# Altium footprint library CONNECTORS.PcbLib: 52 footprints (part 2 of 4)
Each footprint in its own frame and in the unit in brackets; x right, y up, seen from the top. Pads: shape width x height; smd on the part's side, far side on the other; paste and mask are expansions set on the pad; w line width, h text height; cw(c..) or ccw(c..) is an arc to the next point about the centre after c.
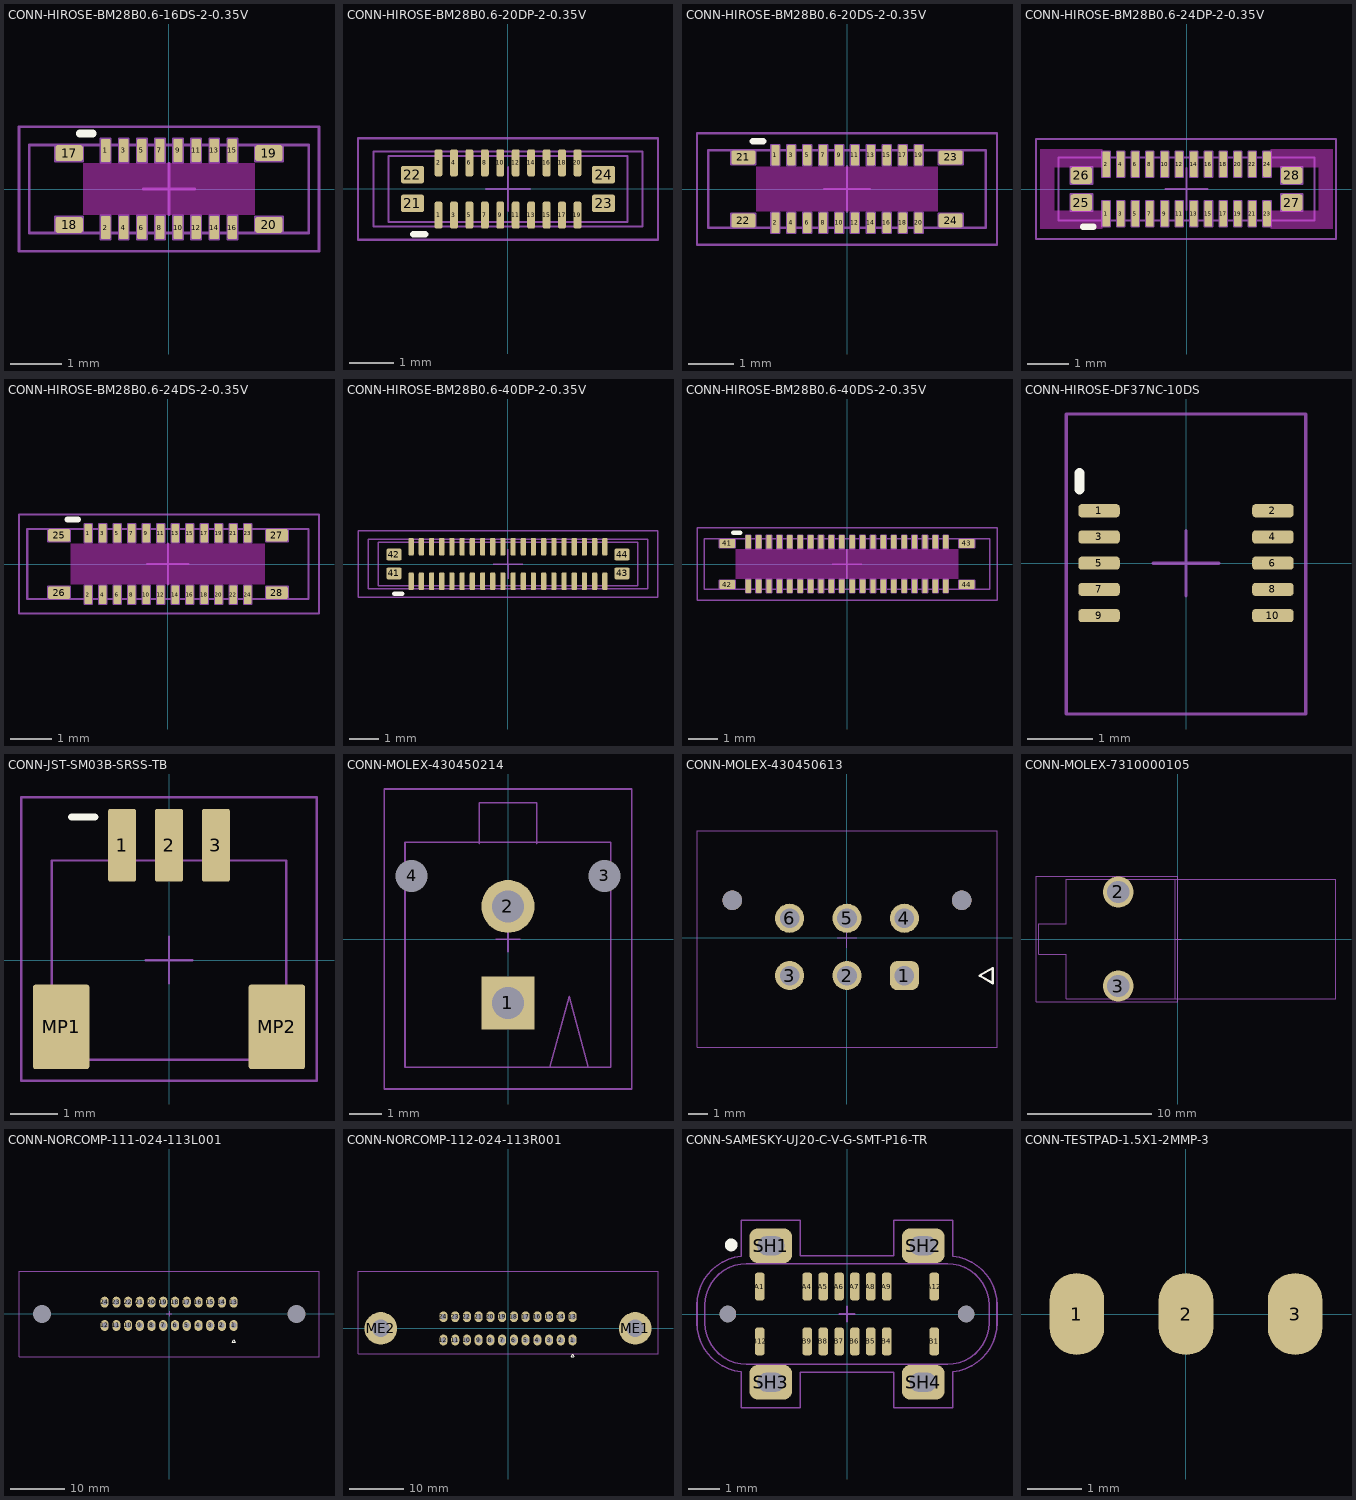
[diagram p1: the footprints below, top view; thin cyan lines are the x and y axes]

## CONN-HIROSE-BM28B0.6-16DS-2-0.35V [mm]
height 0.6
pads (20):
  rrect30% 0.18x0.45 smd mask+0.05: 1(-1.225,0.745) 2(-1.225,-0.745) 3(-0.875,0.745) 4(-0.875,-0.745) 5(-0.525,0.745) 6(-0.525,-0.745) 7(-0.175,0.745) 8(-0.175,-0.745) 9(0.175,0.745) 10(0.175,-0.745) 11(0.525,0.745) 12(0.525,-0.745) 13(0.875,0.745) 14(0.875,-0.745) 15(1.225,0.745) 16(1.225,-0.745)
  rrect30% 0.53x0.31 smd mask+0.05: 17(-1.93,0.694) 18(-1.93,-0.694) 19(1.93,0.694) 20(1.93,-0.694)
Top Overlay:
  lines w0.15: -1.725,1.075 -1.475,1.075
Keep-Out Layer:
  rectangle: -1.66,-0.5 1.66,0.5
Top Courtyard:
  lines w0.05: -0.5,0 0,0 ; 0,-0.5 0,0 ; 0,0.5 0,0 ; 0.5,0 0,0 ; -2.9,-1.2 -2.9,1.2 2.9,1.2 2.9,-1.2 -2.9,-1.2
Top Assembly:
  lines w0.05: -2.7,-0.85 -2.7,0.85 2.7,0.85 2.7,-0.85 -2.7,-0.85 ; -2.195,-0.849 -1.665,-0.849 -1.665,-0.539 -1.93,-0.539 -2.195,-0.539 -2.195,-0.849 ; -2.195,0.539 -2.195,0.849 -1.665,0.849 -1.665,0.539 -1.93,0.539 -2.195,0.539 ; -1.315,-0.97 -1.135,-0.97 -1.135,-0.52 -1.225,-0.52 -1.315,-0.52 -1.315,-0.97 ; -1.315,0.52 -1.315,0.97 -1.135,0.97 -1.135,0.52 -1.225,0.52 -1.315,0.52 ; -0.965,-0.97 -0.785,-0.97 -0.785,-0.52 -0.875,-0.52 -0.965,-0.52 -0.965,-0.97 ; -0.965,0.52 -0.965,0.97 -0.785,0.97 -0.785,0.52 -0.875,0.52 -0.965,0.52 ; -0.615,-0.97 -0.435,-0.97 -0.435,-0.52 -0.525,-0.52 -0.615,-0.52 -0.615,-0.97 ; -0.615,0.52 -0.615,0.97 -0.435,0.97 -0.435,0.52 -0.525,0.52 -0.615,0.52 ; -0.265,-0.97 -0.085,-0.97 -0.085,-0.52 -0.175,-0.52 -0.265,-0.52 -0.265,-0.97 ; -0.265,0.52 -0.265,0.97 -0.085,0.97 -0.085,0.52 -0.175,0.52 -0.265,0.52 ; 0.085,-0.97 0.265,-0.97 0.265,-0.52 0.175,-0.52 0.085,-0.52 0.085,-0.97 ; 0.085,0.52 0.085,0.97 0.265,0.97 0.265,0.52 0.175,0.52 0.085,0.52 ; 0.435,-0.97 0.615,-0.97 0.615,-0.52 0.525,-0.52 0.435,-0.52 0.435,-0.97 ; 0.435,0.52 0.435,0.97 0.615,0.97 0.615,0.52 0.525,0.52 0.435,0.52 ; 0.785,-0.97 0.965,-0.97 0.965,-0.52 0.875,-0.52 0.785,-0.52 0.785,-0.97 ; 0.785,0.52 0.785,0.97 0.965,0.97 0.965,0.52 0.875,0.52 0.785,0.52 ; 1.135,-0.97 1.315,-0.97 1.315,-0.52 1.225,-0.52 1.135,-0.52 1.135,-0.97 ; 1.135,0.52 1.135,0.97 1.315,0.97 1.315,0.52 1.225,0.52 1.135,0.52 ; 1.665,-0.849 2.195,-0.849 2.195,-0.539 1.93,-0.539 1.665,-0.539 1.665,-0.849 ; 1.665,0.539 1.665,0.849 2.195,0.849 2.195,0.539 1.93,0.539 1.665,0.539
  text "1" at -1.326,0.528 h0.7
3D body "BM28-16DS.stp": height 0.65, standoff 0.05, extent -2.7,-0.85 2.7,0.85

## CONN-HIROSE-BM28B0.6-20DP-2-0.35V [mm]
height 0.6
pads (24):
  rrect55% 0.18x0.615 smd mask+0.05: 1(-1.575,-0.593) 2(-1.575,0.592) 3(-1.225,-0.593) 4(-1.225,0.592) 5(-0.875,-0.593) 6(-0.875,0.592) 7(-0.525,-0.593) 8(-0.525,0.592) 9(-0.175,-0.593) 10(-0.175,0.592) 11(0.175,-0.593) 12(0.175,0.592) 13(0.525,-0.593) 14(0.525,0.592) 15(0.875,-0.593) 16(0.875,0.592) 17(1.225,-0.593) 18(1.225,0.592) 19(1.575,-0.593) 20(1.575,0.592)
  rrect25% 0.52x0.4 smd paste+0 mask+0.05: 21(-2.165,-0.325) 22(-2.165,0.325) 23(2.165,-0.325) 24(2.165,0.325)
Top Overlay:
  lines w0.15: -2.15,-1.025 -1.875,-1.025
Top Courtyard:
  lines w0.05: -0.5,0 0,0 ; 0,-0.5 0,0 ; 0,0.5 0,0 ; 0.5,0 0,0 ; -3.4,-1.15 3.4,-1.15 3.4,1.15 -3.4,1.15 -3.4,-1.15
Top Assembly:
  lines w0.05: -3.05,-0.85 -3.05,0.85 3.05,0.85 3.05,-0.85 -3.05,-0.85 ; -2.71,-0.75 -2.71,0.75 2.71,0.75 2.71,-0.75 -2.71,-0.75
  text "MATE ZONE" at 2.927,-0.44 h0.2
3D body "BM28-20DP.stp": height 0.52, standoff 0.05, extent -2.71,-0.75 2.71,0.75

## CONN-HIROSE-BM28B0.6-20DS-2-0.35V [mm]
height 0.6
pads (24):
  rrect30% 0.18x0.45 smd mask+0.05: 1(-1.575,0.745) 2(-1.575,-0.745) 3(-1.225,0.745) 4(-1.225,-0.745) 5(-0.875,0.745) 6(-0.875,-0.745) 7(-0.525,0.745) 8(-0.525,-0.745) 9(-0.175,0.745) 10(-0.175,-0.745) 11(0.175,0.745) 12(0.175,-0.745) 13(0.525,0.745) 14(0.525,-0.745) 15(0.875,0.745) 16(0.875,-0.745) 17(1.225,0.745) 18(1.225,-0.745) 19(1.575,0.745) 20(1.575,-0.745)
  rrect30% 0.53x0.31 smd mask+0.05: 21(-2.28,0.694) 22(-2.28,-0.694) 23(2.28,0.694) 24(2.28,-0.694)
Top Layer keep-out:
  rectangle: -2,-0.5 2,0.5
Top Overlay:
  lines w0.15: -2.075,1.05 -1.85,1.05
Top Courtyard:
  lines w0.05: -0.5,0 0,0 ; 0,-0.5 0,0 ; 0,0.5 0,0 ; 0.5,0 0,0 ; -3.3,-1.225 0.075,-1.225 3.3,-1.225 3.3,1.225 -3.3,1.225 -3.3,-1.225
Top Assembly:
  lines w0.05: -3.05,-0.85 3.05,-0.85 3.05,0.85 -3.05,0.85 -3.05,-0.85 ; -2.545,-0.849 -2.545,-0.539 -2.28,-0.539 -2.015,-0.539 -2.015,-0.849 -2.545,-0.849 ; -2.545,0.539 -2.545,0.849 -2.28,0.849 -2.015,0.849 -2.015,0.539 -2.545,0.539 ; -1.665,-0.97 -1.665,-0.52 -1.575,-0.52 -1.485,-0.52 -1.485,-0.97 -1.665,-0.97 ; -1.665,0.52 -1.665,0.97 -1.575,0.97 -1.485,0.97 -1.485,0.52 -1.665,0.52 ; -1.315,-0.97 -1.315,-0.52 -1.225,-0.52 -1.135,-0.52 -1.135,-0.97 -1.315,-0.97 ; -1.315,0.52 -1.315,0.97 -1.225,0.97 -1.135,0.97 -1.135,0.52 -1.315,0.52 ; -0.965,-0.97 -0.965,-0.52 -0.875,-0.52 -0.785,-0.52 -0.785,-0.97 -0.965,-0.97 ; -0.965,0.52 -0.965,0.97 -0.875,0.97 -0.785,0.97 -0.785,0.52 -0.965,0.52 ; -0.615,-0.97 -0.615,-0.52 -0.525,-0.52 -0.435,-0.52 -0.435,-0.97 -0.615,-0.97 ; -0.615,0.52 -0.615,0.97 -0.525,0.97 -0.435,0.97 -0.435,0.52 -0.615,0.52 ; -0.265,-0.97 -0.265,-0.52 -0.175,-0.52 -0.085,-0.52 -0.085,-0.97 -0.265,-0.97 ; -0.265,0.52 -0.265,0.97 -0.175,0.97 -0.085,0.97 -0.085,0.52 -0.265,0.52 ; 0.085,-0.97 0.265,-0.97 0.265,-0.52 0.175,-0.52 0.085,-0.52 0.085,-0.97 ; 0.085,0.52 0.265,0.52 0.265,0.97 0.175,0.97 0.085,0.97 0.085,0.52 ; 0.435,-0.97 0.615,-0.97 0.615,-0.52 0.525,-0.52 0.435,-0.52 0.435,-0.97 ; 0.435,0.52 0.615,0.52 0.615,0.97 0.525,0.97 0.435,0.97 0.435,0.52 ; 0.785,-0.97 0.965,-0.97 0.965,-0.52 0.875,-0.52 0.785,-0.52 0.785,-0.97 ; 0.785,0.52 0.965,0.52 0.965,0.97 0.875,0.97 0.785,0.97 0.785,0.52 ; 1.135,-0.97 1.315,-0.97 1.315,-0.52 1.225,-0.52 1.135,-0.52 1.135,-0.97 ; 1.135,0.52 1.315,0.52 1.315,0.97 1.225,0.97 1.135,0.97 1.135,0.52 ; 1.485,-0.97 1.665,-0.97 1.665,-0.52 1.575,-0.52 1.485,-0.52 1.485,-0.97 ; 1.485,0.52 1.665,0.52 1.665,0.97 1.575,0.97 1.485,0.97 1.485,0.52 ; 2.015,0.539 2.545,0.539 2.545,0.849 2.28,0.849 2.015,0.849 2.015,0.539 ; 2.015,-0.849 2.545,-0.849 2.545,-0.539 2.28,-0.539 2.015,-0.539 2.015,-0.849
  text "1" at -1.665,0.52 h0.4
3D body "BM28-20DS.stp": height 0.65, standoff 0.05, extent -3.05,-0.85 3.05,0.85

## CONN-HIROSE-BM28B0.6-24DP-2-0.35V [mm]
height 0.6
pads (28):
  rrect30% 0.18x0.615 smd mask+0.05: 1(-1.925,-0.593) 2(-1.925,0.593) 3(-1.575,-0.593) 4(-1.575,0.593) 5(-1.225,-0.593) 6(-1.225,0.593) 7(-0.875,-0.593) 8(-0.875,0.593) 9(-0.525,-0.593) 10(-0.525,0.593) 11(-0.175,-0.593) 12(-0.175,0.593) 13(0.175,-0.593) 14(0.175,0.593) 15(0.525,-0.593) 16(0.525,0.593) 17(0.875,-0.593) 18(0.875,0.593) 19(1.225,-0.593) 20(1.225,0.593) 21(1.575,-0.593) 22(1.575,0.593) 23(1.925,-0.593) 24(1.925,0.593)
  rrect30% 0.52x0.4 smd: 25(-2.515,-0.325) 26(-2.515,0.325) 27(2.515,-0.325) 28(2.515,0.325)
Top Overlay:
  lines w0.15: -2.475,-0.9 -2.225,-0.9
Keep-Out Layer:
  region: -2.015,0.525 -3.16,0.525 -3.16,-0.525 -2.015,-0.525 -2.015,-0.95 -3.5,-0.95 -3.5,0.95 -2.015,0.95
  region: 3.5,-0.95 2.015,-0.95 2.015,-0.525 3.16,-0.525 3.16,0.525 2.015,0.525 2.015,0.95 3.5,0.95
Top Courtyard:
  lines w0.05: -0.5,0 0.5,0 ; 0,-0.5 0,0.5 ; -3.6,-1.2 -3.6,1.2 3.575,1.2 3.575,-1.2 -3.6,-1.2
Top Assembly:
  lines w0.05: 0.48,0.285 0.615,0.285 0.615,0.9 0.435,0.9 0.435,0.285 0.525,0.285 ; -3.06,-0.75 3.06,-0.75 3.06,0.75 -3.06,0.75 -3.06,-0.75 ; -2.775,-0.525 -2.255,-0.525 -2.255,-0.125 -2.515,-0.125 -2.775,-0.125 -2.775,-0.325 -2.775,-0.525 ; -2.775,0.125 -2.255,0.125 -2.255,0.325 -2.255,0.525 -2.515,0.525 -2.775,0.525 -2.775,0.125 ; -2.015,-0.9 -1.835,-0.9 -1.835,-0.285 -1.925,-0.285 -2.015,-0.285 -2.015,-0.9 ; -2.015,0.285 -2.015,0.9 -1.835,0.9 -1.835,0.285 -1.925,0.285 -2.015,0.285 ; -1.665,-0.9 -1.485,-0.9 -1.485,-0.285 -1.575,-0.285 -1.665,-0.285 -1.665,-0.9 ; -1.665,0.285 -1.665,0.9 -1.485,0.9 -1.485,0.285 -1.575,0.285 -1.665,0.285 ; -1.315,-0.9 -1.135,-0.9 -1.135,-0.285 -1.225,-0.285 -1.315,-0.285 -1.315,-0.9 ; -1.315,0.285 -1.315,0.9 -1.135,0.9 -1.135,0.285 -1.225,0.285 -1.315,0.285 ; -0.965,-0.9 -0.785,-0.9 -0.785,-0.285 -0.875,-0.285 -0.965,-0.285 -0.965,-0.9 ; -0.965,0.285 -0.965,0.9 -0.785,0.9 -0.785,0.285 -0.875,0.285 -0.965,0.285 ; -0.615,-0.9 -0.615,-0.285 -0.525,-0.285 -0.435,-0.285 -0.435,-0.9 -0.615,-0.9 ; -0.615,0.285 -0.525,0.285 -0.435,0.285 -0.435,0.9 -0.615,0.9 -0.615,0.285 ; -0.265,-0.9 -0.265,-0.285 -0.175,-0.285 -0.085,-0.285 -0.085,-0.9 -0.265,-0.9 ; -0.265,0.285 -0.175,0.285 -0.085,0.285 -0.085,0.9 -0.265,0.9 -0.265,0.285 ; 0.085,-0.9 0.085,-0.285 0.175,-0.285 0.265,-0.285 0.265,-0.9 0.085,-0.9 ; 0.085,0.285 0.175,0.285 0.265,0.285 0.265,0.9 0.085,0.9 0.085,0.285 ; 0.435,-0.9 0.435,-0.285 0.525,-0.285 0.615,-0.285 0.615,-0.9 0.435,-0.9 ; 0.785,-0.9 0.785,-0.285 0.875,-0.285 0.965,-0.285 0.965,-0.9 0.785,-0.9 ; 0.785,0.285 0.875,0.285 0.965,0.285 0.965,0.9 0.785,0.9 0.785,0.285 ; 1.135,-0.9 1.135,-0.285 1.225,-0.285 1.315,-0.285 1.315,-0.9 1.135,-0.9 ; 1.135,0.285 1.225,0.285 1.315,0.285 1.315,0.9 1.135,0.9 1.135,0.285 ; 1.485,-0.9 1.485,-0.285 1.575,-0.285 1.665,-0.285 1.665,-0.9 1.485,-0.9 ; 1.485,0.285 1.575,0.285 1.665,0.285 1.665,0.9 1.485,0.9 1.485,0.285 ; 1.835,-0.9 1.835,-0.285 1.925,-0.285 2.015,-0.285 2.015,-0.9 1.835,-0.9 ; 1.835,0.285 1.925,0.285 2.015,0.285 2.015,0.9 1.835,0.9 1.835,0.285 ; 2.255,-0.525 2.515,-0.525 2.775,-0.525 2.775,-0.125 2.255,-0.125 2.255,-0.325 2.255,-0.525 ; 2.255,0.125 2.515,0.125 2.775,0.125 2.775,0.325 2.775,0.525 2.255,0.525 2.255,0.125
  text "1" at -1.835,-0.9 h0.2
3D body "BM28-24DP.stp": height 0.47, standoff 0, extent -3.06,-0.75 3.06,0.75

## CONN-HIROSE-BM28B0.6-24DS-2-0.35V [mm]
height 0.6
pads (28):
  rrect30% 0.18x0.45 smd mask+0.05: 1(-1.925,0.745) 2(-1.925,-0.745) 3(-1.575,0.745) 4(-1.575,-0.745) 5(-1.225,0.745) 6(-1.225,-0.745) 7(-0.875,0.745) 8(-0.875,-0.745) 9(-0.525,0.745) 10(-0.525,-0.745) 11(-0.175,0.745) 12(-0.175,-0.745) 13(0.175,0.745) 14(0.175,-0.745) 15(0.525,0.745) 16(0.525,-0.745) 17(0.875,0.745) 18(0.875,-0.745) 19(1.225,0.745) 20(1.225,-0.745) 21(1.575,0.745) 22(1.575,-0.745) 23(1.925,0.745) 24(1.925,-0.745)
  rrect30% 0.53x0.31 smd mask+0.05: 25(-2.63,0.694) 26(-2.63,-0.694) 27(2.63,0.694) 28(2.63,-0.694)
Top Overlay:
  lines w0.15: -2.425,1.075 -2.175,1.075
Keep-Out Layer:
  rectangle: -2.36,-0.5 2.35,0.5
Top Courtyard:
  lines w0.05: -0.5,0 0,0 ; 0,-0.5 0,0 ; 0,0.5 0,0 ; 0.5,0 0,0 ; -3.6,-1.2 3.65,-1.2 3.65,1.2 -3.6,1.2 -3.6,-1.2
Top Assembly:
  lines w0.05: -3.4,-0.85 -3.4,0.85 3.4,0.85 3.4,-0.85 -3.4,-0.85 ; -2.895,-0.849 -2.365,-0.849 -2.365,-0.539 -2.63,-0.539 -2.895,-0.539 -2.895,-0.849 ; -2.895,0.539 -2.895,0.849 -2.365,0.849 -2.365,0.539 -2.63,0.539 -2.895,0.539 ; -2.015,-0.97 -1.835,-0.97 -1.835,-0.52 -1.925,-0.52 -2.015,-0.52 -2.015,-0.97 ; -2.015,0.52 -2.015,0.97 -1.835,0.97 -1.835,0.52 -1.925,0.52 -2.015,0.52 ; -1.665,-0.97 -1.485,-0.97 -1.485,-0.52 -1.575,-0.52 -1.665,-0.52 -1.665,-0.97 ; -1.665,0.52 -1.665,0.97 -1.485,0.97 -1.485,0.52 -1.575,0.52 -1.665,0.52 ; -1.315,-0.97 -1.135,-0.97 -1.135,-0.52 -1.225,-0.52 -1.315,-0.52 -1.315,-0.97 ; -1.315,0.52 -1.315,0.97 -1.135,0.97 -1.135,0.52 -1.225,0.52 -1.315,0.52 ; -0.965,-0.97 -0.785,-0.97 -0.785,-0.52 -0.875,-0.52 -0.965,-0.52 -0.965,-0.97 ; -0.965,0.52 -0.965,0.97 -0.785,0.97 -0.785,0.52 -0.875,0.52 -0.965,0.52 ; -0.615,-0.97 -0.435,-0.97 -0.435,-0.52 -0.525,-0.52 -0.615,-0.52 -0.615,-0.97 ; -0.615,0.52 -0.615,0.97 -0.435,0.97 -0.435,0.52 -0.525,0.52 -0.615,0.52 ; -0.265,-0.97 -0.085,-0.97 -0.085,-0.52 -0.175,-0.52 -0.265,-0.52 -0.265,-0.97 ; -0.265,0.52 -0.265,0.97 -0.085,0.97 -0.085,0.52 -0.175,0.52 -0.265,0.52 ; 0.085,-0.97 0.265,-0.97 0.265,-0.52 0.175,-0.52 0.085,-0.52 0.085,-0.97 ; 0.085,0.52 0.085,0.97 0.265,0.97 0.265,0.52 0.175,0.52 0.085,0.52 ; 0.435,-0.97 0.615,-0.97 0.615,-0.52 0.525,-0.52 0.435,-0.52 0.435,-0.97 ; 0.435,0.52 0.435,0.97 0.615,0.97 0.615,0.52 0.525,0.52 0.435,0.52 ; 0.785,-0.97 0.965,-0.97 0.965,-0.52 0.875,-0.52 0.785,-0.52 0.785,-0.97 ; 0.785,0.52 0.785,0.97 0.965,0.97 0.965,0.52 0.875,0.52 0.785,0.52 ; 1.135,-0.97 1.315,-0.97 1.315,-0.52 1.225,-0.52 1.135,-0.52 1.135,-0.97 ; 1.135,0.52 1.135,0.97 1.315,0.97 1.315,0.52 1.225,0.52 1.135,0.52 ; 1.485,-0.97 1.665,-0.97 1.665,-0.52 1.575,-0.52 1.485,-0.52 1.485,-0.97 ; 1.485,0.52 1.485,0.97 1.665,0.97 1.665,0.52 1.575,0.52 1.485,0.52 ; 1.835,-0.97 2.015,-0.97 2.015,-0.52 1.925,-0.52 1.835,-0.52 1.835,-0.97 ; 1.835,0.52 1.835,0.97 2.015,0.97 2.015,0.52 1.925,0.52 1.835,0.52 ; 2.365,-0.849 2.895,-0.849 2.895,-0.539 2.63,-0.539 2.365,-0.539 2.365,-0.849 ; 2.365,0.539 2.365,0.849 2.895,0.849 2.895,0.539 2.63,0.539 2.365,0.539
  text "1" at -2.026,0.528 h0.7
3D body "BM28-24DS.stp": height 0.6, standoff 0, extent -3.4,-0.85 3.4,0.85

## CONN-HIROSE-BM28B0.6-40DP-2-0.35V [mm]
height 0.6
pads (44):
  rrect55% 0.18x0.615 smd mask+0.05: 1(-3.325,-0.593) 2(-3.325,0.593) 3(-2.975,-0.593) 4(-2.975,0.593) 5(-2.625,-0.593) 6(-2.625,0.593) 7(-2.275,-0.593) 8(-2.275,0.593) 9(-1.925,-0.593) 10(-1.925,0.593) 11(-1.575,-0.593) 12(-1.575,0.593) 13(-1.225,-0.593) 14(-1.225,0.593) 15(-0.875,-0.593) 16(-0.875,0.593) 17(-0.525,-0.593) 18(-0.525,0.593) 19(-0.175,-0.593) 20(-0.175,0.593) 21(0.175,-0.593) 22(0.175,0.593) 23(0.525,-0.593) 24(0.525,0.593) 25(0.875,-0.593) 26(0.875,0.593) 27(1.225,-0.593) 28(1.225,0.593) 29(1.575,-0.593) 30(1.575,0.593) 31(1.925,-0.593) 32(1.925,0.593) 33(2.275,-0.593) 34(2.275,0.593) 35(2.625,-0.593) 36(2.625,0.593) 37(2.975,-0.593) 38(2.975,0.593) 39(3.325,-0.593) 40(3.325,0.593)
  rrect25% 0.52x0.4 smd paste+0 mask+0.05: 41(-3.915,-0.325) 42(-3.915,0.325) 43(3.915,-0.325) 44(3.915,0.325)
Top Overlay:
  lines w0.15: -3.9,-1.025 -3.625,-1.025
Top Courtyard:
  lines w0.05: -0.5,0 0,0 ; 0,-0.5 0,0 ; 0,0.5 0,0 ; 0.5,0 0,0 ; -5.15,-1.15 -5.15,1.15 5.15,1.15 5.15,-1.15 -5.15,-1.15
Top Assembly:
  lines w0.05: -4.8,-0.85 4.8,-0.85 4.8,0.85 -4.8,0.85 -4.8,-0.85 ; -4.46,-0.75 4.46,-0.75 4.46,0.75 -4.46,0.75 -4.46,-0.75
  text "MATE ZONE" at 4.677,-0.44 h0.2
3D body "BM28-40DP.stp": height 0.47, standoff 0, extent -4.46,-0.75 4.46,0.75

## CONN-HIROSE-BM28B0.6-40DS-2-0.35V [mm]
height 0.6
pads (44):
  rrect30% 0.18x0.45 smd mask+0.05: 1(-3.325,0.745) 2(-3.325,-0.745) 3(-2.975,0.745) 4(-2.975,-0.745) 5(-2.625,0.745) 6(-2.625,-0.745) 7(-2.275,0.745) 8(-2.275,-0.745) 9(-1.925,0.745) 10(-1.925,-0.745) 11(-1.575,0.745) 12(-1.575,-0.745) 13(-1.225,0.745) 14(-1.225,-0.745) 15(-0.875,0.745) 16(-0.875,-0.745) 17(-0.525,0.745) 18(-0.525,-0.745) 19(-0.175,0.745) 20(-0.175,-0.745) 21(0.175,0.745) 22(0.175,-0.745) 23(0.525,0.745) 24(0.525,-0.745) 25(0.875,0.745) 26(0.875,-0.745) 27(1.225,0.745) 28(1.225,-0.745) 29(1.575,0.745) 30(1.575,-0.745) 31(1.925,0.745) 32(1.925,-0.745) 33(2.275,0.745) 34(2.275,-0.745) 35(2.625,0.745) 36(2.625,-0.745) 37(2.975,0.745) 38(2.975,-0.745) 39(3.325,0.745) 40(3.325,-0.745)
  rrect30% 0.53x0.31 smd mask+0.05: 41(-4.03,0.694) 42(-4.03,-0.694) 43(4.03,0.694) 44(4.03,-0.694)
Top Layer keep-out:
  rectangle: -3.75,-0.5 3.75,0.5
Top Overlay:
  lines w0.15: -3.825,1.05 -3.6,1.05
Top Courtyard:
  lines w0.05: -0.5,0 0,0 ; 0,-0.5 0,0 ; 0,0.5 0,0 ; 0.5,0 0,0 ; -5.05,-1.225 -5.05,1.225 5.05,1.225 5.05,-1.225 -1.675,-1.225 -5.05,-1.225
Top Assembly:
  drawing of 224 lines, arcs and shapes, not listed
  text "1" at -3.415,0.52 h0.4
3D body "BM28-40DS.stp": height 0.6, standoff 0, extent -4.8,-0.85 4.8,0.85

## CONN-HIROSE-DF37NC-10DS [mm]
pads (10):
  rrect50% 0.63x0.2 smd paste-2539.97 mask+0.05: 1(-1.325,0.8) 2(1.325,0.8) 3(-1.325,0.4) 4(1.325,0.4) 5(-1.325,0) 6(1.325,0) 7(-1.325,-0.4) 8(1.325,-0.4) 9(-1.325,-0.8) 10(1.325,-0.8)
Top Overlay:
  lines w0.15: -1.625,1.125 -1.625,1.375
Top Courtyard:
  lines w0.05: -0.5,0 0,0 ; 0,-0.5 0,0 ; 0,0.5 0,0 ; 0.5,0 0,0 ; -1.825,-2.3 1.825,-2.3 1.825,2.275 -1.825,2.275 -1.825,-0.8 -1.825,-2.3
3D body "DF37NC-10DS-0.4V.stp": height 0.99, standoff 0.01, extent -1.489,-2.11 1.491,2.11

## CONN-JST-SM03B-SRSS-TB [mm]
pads (5):
  rrect16% 0.6x1.55 smd mask+0.05: 1(-1,2.45) 2(0,2.45) 3(1,2.45)
  rrect8% 1.2x1.8 smd mask+0.05: MP1(-2.3,-1.425) MP2(2.3,-1.425)
Top Overlay:
  lines w0.15: -2.075,3.05 -1.575,3.05
Top Courtyard:
  lines w0.05: -0.5,0 0.5,0 ; 0,-0.5 0,0.5 ; -3.15,-2.575 3.15,-2.575 3.15,3.475 -3.15,3.475 -3.15,-2.575
Top Assembly:
  lines w0.05: -2.5,-2.125 2.5,-2.125 2.5,2.125 -2.5,2.125 -2.5,-2.125
3D body "SM03B-SRSS.stp": height 3.25, standoff 0.3, extent -2.5,-2.125 2.5,2.825

## CONN-MOLEX-430450214 [mm] "CONN-MOLEX-430450214"
pads (4):
  rect 1.65x1.65 hole 1 mask+0.1: 1(-0.001,-1.975)
  round 1.65 hole 1 mask+0.1: 2(-0.001,1.025)
  round 0.65 hole 1 unplated mask+0.15: 3(2.999,1.975) 4(-2.999,1.975)
Top Courtyard:
  lines w0.05: -0.375,0 0.375,0 ; 0,-0.375 0,0.375 ; -3.85,-4.65 -3.85,4.675 3.85,4.675 3.85,-4.65 -3.85,-4.65
Top Assembly:
  lines w0.05: -0.89,2.978 -0.89,4.248 0.888,4.248 0.888,2.978 ; 1.299,-3.975 1.899,-1.775 2.499,-3.975 ; -3.201,-3.975 -3.201,3.025 3.198,3.025 3.198,-3.975 -3.201,-3.975
3D body "MOLEX_43045-0212.stp": height 9.9, standoff -3.19, extent -3.576,-4.375 3.574,4.395

## CONN-MOLEX-430450613 [mm]
pads (8):
  rrect50% 1.52x1.52 hole 1.02 mask+0.076: 1(3,-1.97)
  round 1.52 hole 1.02 mask+0.076: 2(0,-1.97) 3(-3,-1.97) 4(3,1.03) 5(0,1.03) 6(-3,1.03)
  round 1.02 hole 1.02 unplated mask+0.076: ""(-6,1.97) ""(6,1.97)
Top Overlay:
  lines w0.127: 6.93,-1.97 7.63,-1.57 7.63,-2.37 6.93,-1.97
Top Courtyard:
  lines w0.05: -0.5,0 0,0 ; 0,-0.5 0,0 ; 0,0.5 0,0 ; 0.5,0 0,0 ; -7.845,-5.71 -7.845,5.6 7.845,5.6 7.845,-5.71 -7.845,-5.71
Top Assembly:
  lines w0.05: 6.93,-1.97 7.63,-1.57 7.63,-2.37 6.93,-1.97
3D body "430450613.STEP": height 9.92, standoff -3.17, extent -6.575,-4.44 6.575,4.33

## CONN-MOLEX-7310000105 [mm]
pads (2):
  round 2.5 hole 1.8 unplated paste-2539.97 mask+0.15: 2(-4.825,3.8) 3(-4.825,-3.8)
Top Courtyard:
  lines w0.05: -0.25,0 0,0 ; 0.25,0 0,0 ; 0,0 0,-5.075 -11.475,-5.075 -11.475,5.075 0,5.075 0,0
  text "BOARD EDGE" at -0.366,-2.15 h1
Top Assembly:
  lines w0.05: -0.225,-4.825 -0.225,3.971 -0.225,4.825 ; -0.225,-4.825 -9.025,-4.825 -9.025,-1.25 -11.233,-1.25 -11.233,1.25 -9.025,1.25 -9.025,4.825 -0.225,4.825 ; -0.225,-4.825 12.775,-4.825 12.775,4.825 -0.225,4.825
3D body "731000105.stp": height 9.3, standoff -2.99, extent -12.775,-4.825 12.775,4.825

## CONN-NORCOMP-111-024-113L001 [mm] "GPIB MALE VERT"
pads (26):
  oval 1.5x2 hole 1 paste-2539.97 mask+0.05: 1(11.874,-2.146) 2(9.716,-2.146) 3(7.556,-2.146) 4(5.397,-2.146) 5(3.238,-2.146) 6(1.079,-2.146) 7(-1.079,-2.146) 8(-3.238,-2.146) 9(-5.397,-2.146) 10(-7.556,-2.146) 11(-9.716,-2.146) 12(-11.874,-2.146) 13(11.874,2.146) 14(9.716,2.146) 15(7.556,2.146) 16(5.397,2.146) 17(3.238,2.146) 18(1.079,2.146) 19(-1.079,2.146) 20(-3.238,2.146) 21(-5.397,2.146) 22(-7.556,2.146) 23(-9.716,2.146) 24(-11.874,2.146)
  round 0 hole 3.3 unplated paste-2539.97 mask+0.15: ME1(23.406,0) ME2(-23.406,0)
Top Overlay:
  lines w0.15: 11.625,-5.25 11.875,-4.75 12.125,-5.25 11.625,-5.25
Top Courtyard:
  lines w0.05: -0.488,0 0.006,0 ; 0.006,-0.494 0.006,0 ; 0.006,0.494 0.006,0 ; 0.5,0 0.006,0 ; -27.625,-7.9 -27.625,7.825 27.575,7.825 27.575,-7.9 -27.625,-7.9
3D body "111-024-113L001.STEP": height 14.81, standoff -3.49, extent -27.319,-7.65 27.331,7.65

## CONN-NORCOMP-112-024-113R001 [mm] "GPIB MALE RA"
pads (26):
  oval 1.5x2 hole 1 paste-2539.97 mask+0.05: 1(11.874,-2.146) 2(9.716,-2.146) 3(7.556,-2.146) 4(5.397,-2.146) 5(3.238,-2.146) 6(1.079,-2.146) 7(-1.079,-2.146) 8(-3.238,-2.146) 9(-5.397,-2.146) 10(-7.556,-2.146) 11(-9.716,-2.146) 12(-11.874,-2.146) 13(11.874,2.146) 14(9.716,2.146) 15(7.556,2.146) 16(5.397,2.146) 17(3.238,2.146) 18(1.079,2.146) 19(-1.079,2.146) 20(-3.238,2.146) 21(-5.397,2.146) 22(-7.556,2.146) 23(-9.716,2.146) 24(-11.874,2.146)
  round 6 hole 3.2 paste-2539.97 mask+0.254: ME1(23.406,0) ME2(-23.406,0)
Top Overlay:
  lines w0.15: 11.625,-5.25 11.875,-4.75 12.125,-5.25 11.625,-5.25
Top Courtyard:
  lines w0.05: -27.6,-4.65 -27.6,10.541 27.6,10.541 27.6,-4.65 -27.6,-4.65
  text "BOARD EDGE" at -4.29,9.26 h1
3D body "112-024-113R001.STEP": height 15.61, standoff -4.49, extent -27.356,-4.4 27.344,20

## CONN-SAMESKY-UJ20-C-V-G-SMT-P16-TR [mm]
height 7.45
pads (22):
  rrect50% 0.3x0.87 smd mask+0.05: A1(-2.75,0.865) A4(-1.25,0.865) A5(-0.75,0.865) A6(-0.25,0.865) A7(0.25,0.865) A8(0.75,0.865) A9(1.25,0.865) A12(2.75,0.865) B1(2.75,-0.865) B4(1.25,-0.865) B5(0.75,-0.865) B6(0.25,-0.865) B7(-0.25,-0.865) B8(-0.75,-0.865) B9(-1.25,-0.865) B12(-2.75,-0.865)
  rrect50% 1.35x1.1 hole 0.6 slot 0.85 at 0 deg mask+0.1: SH1(-2.4,2.15) SH2(2.4,2.15) SH3(-2.4,-2.15) SH4(2.4,-2.15)
  round 0.52 hole 0.52 unplated mask+0.15: ""(-3.75,0) ""(3.75,0)
Top Overlay:
  circle w0.2: c-3.65,2.175 r0.1
Top Courtyard:
  lines w0.05: -4.725,-0.286 -4.725,0.284 ; -4.725,-0.284 -4.725,0.286 ; -4.725,-0.28 ccw(c-3.175,-0.28) -3.337,-1.821 ; -4.725,0.28 cw(c-3.175,0.28) -3.337,1.821 ; -3.325,-1.821 -3.325,-2.95 -1.475,-2.95 -1.475,-1.83 1.475,-1.83 1.475,-2.95 3.325,-2.95 3.325,-1.821 ; -3.325,1.821 -3.325,2.95 -1.475,2.95 -1.475,1.83 1.475,1.83 1.475,2.95 3.325,2.95 3.325,1.821 ; -0.25,0 0,0 ; 0,-0.25 0,0 ; 0,0.25 0,0 ; 0.25,0 0,0 ; 3.337,-1.821 ccw(c3.175,-0.28) 4.725,-0.28 ; 3.337,1.821 cw(c3.175,0.28) 4.725,0.28 ; 4.725,-0.286 4.725,0.284 4.725,-0.286 ; 4.725,-0.284 4.725,0.286
Top Assembly:
  lines w0.05: -4.475,-0.285 ccw(c-3.175,-0.28) -3.165,-1.58 3.165,-1.58 ccw(c3.175,-0.28) 4.475,-0.285 4.475,0.285 ccw(c3.175,0.28) 3.165,1.58 -3.165,1.58 ccw(c-3.175,0.28) -4.475,0.285 -4.475,-0.285
3D body "Same_Sky_UJ20-C-V-G-SMT-P16-TR.step": height 6.41, standoff -0.94, extent -4.475,-2.3 4.465,2.3

## CONN-TESTPAD-1.5X1-2MMP-3 [mm] "TESTPAD, 1.5 X 1 MM , 2MM PITCH , 3 PADS"
pads (3):
  oval 1x1.5 smd paste-2539.97 mask+0.05: 1(-2,0) 2(0,0) 3(2,0)